# Altium footprint library PCB - MICROPHONE - CUI Devices CMA-4544PF-W.PcbLib: 1 footprints
Each footprint in its own frame and in the unit in brackets; x right, y up, seen from the top. Pads: shape width x height; smd on the part's side, far side on the other; paste and mask are expansions set on the pad; w line width, h text height; cw(c..) or ccw(c..) is an arc to the next point about the centre after c.
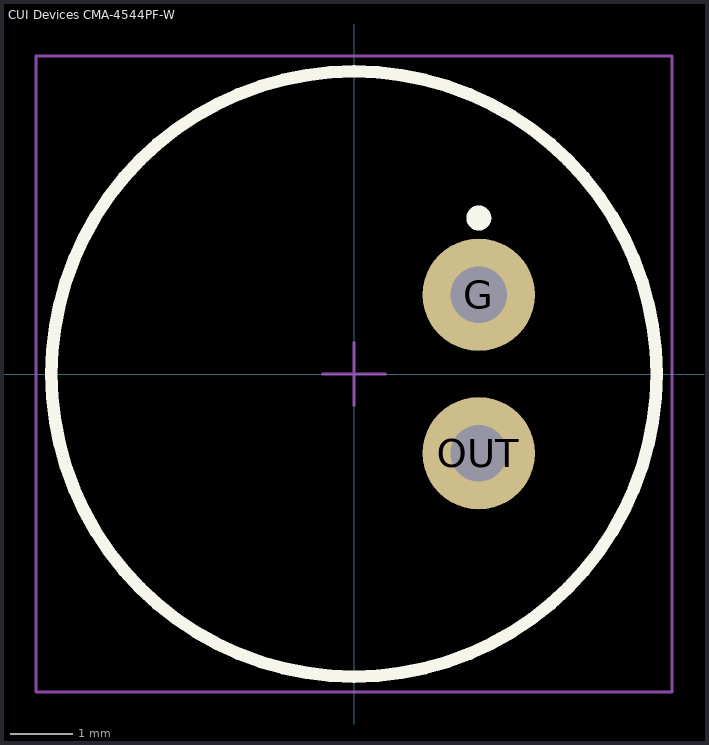
[diagram p0: the footprint, top view; thin cyan lines are the x and y axes]

## CUI Devices CMA-4544PF-W [mm] "Analog Microphone 9.7mm Dia"
height 4.65
pads (2):
  round 1.8 hole 0.9: G(2,1.27) OUT(2,-1.27)
Top Overlay:
  circle w0.2: c0,0 r4.85
  circle w0.2: c2,2.5 r0.1
Mechanical 13:
  circle w0.1: c0,0 r4.85
Mechanical 15:
  lines w0.05: -0.5,0 0.5,0 ; 0,-0.5 0,0.5 ; -5.1,-5.1 5.1,-5.1 5.1,5.1 -5.1,5.1 -5.1,-5.1
3D body "CUI Devices - CMA-4544PF-W.step": height 4.95, standoff -5, extent -4.85,-4.847 4.85,4.847